# EAGLE library part 418217270908 (library Wurth_Elektronik_Electromechanic_Switchs_rev15b)
WS-RA 2.54 mm right angled compact THT Dip Switch with raised actuator, 8 Pole
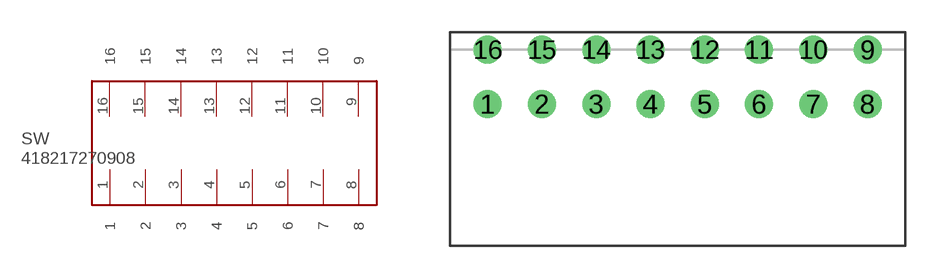
[diagram p79: symbol with the pads of 418217270908; footprint 418217270908]

Designator prefix SW

## 418217270908  [418217270908]
1  1
2  2
3  3
4  4
5  5
6  6
7  7
8  8
9  9
10  10
11  11
12  12
13  13
14  14
15  15
16  16

## Footprint 418217270908 (pad centres in mm)
WS-RA 2.54 mm right angled compact THT Dip Switch with raised actuator, 8 Pole
drill 0.8: 1 0,-1.27; 2 2.54,-1.27; 3 5.08,-1.27; 4 7.62,-1.27; 5 10.16,-1.27; 6 12.7,-1.27; 7 15.24,-1.27; 8 17.78,-1.27; 9 17.78,1.27; 10 15.24,1.27; 11 12.7,1.27; 12 10.16,1.27; 13 7.62,1.27; 14 5.08,1.27; 15 2.54,1.27; 16 0,1.27